# EAGLE library part SD_CARD_READER (library HankLibrariesV2)
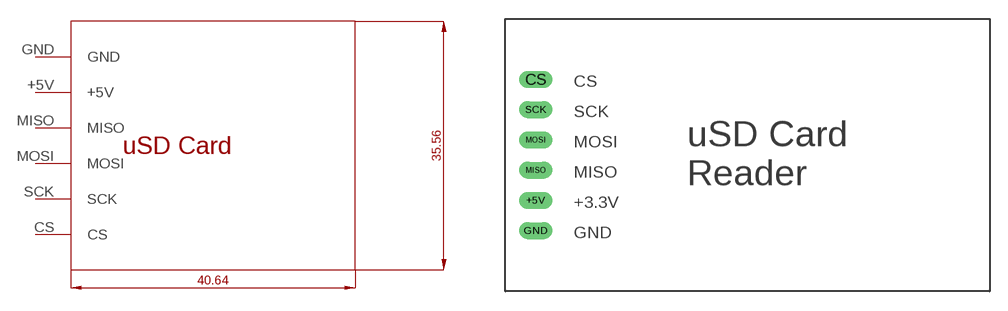
[diagram p3: symbol with the pads of SD_CARD_READER_FOOTPRINT; footprint SD_CARD_READER_FOOTPRINT]

Designator prefix -

## SD_CARD_READER  [SD_CARD_READER_FOOTPRINT]
+5V  +5V
CS  CS
GND  GND
MISO  MISO
MOSI  MOSI
SCK  SCK

## Footprint SD_CARD_READER_FOOTPRINT (pad centres in mm)
drill 0.9 long: +5V -17.78,-3.81; CS -17.78,6.35; GND -17.78,-6.35; MISO -17.78,-1.27; MOSI -17.78,1.27; SCK -17.78,3.81